# Altium footprint library Packaging.PcbLib: 1 footprints
Each footprint in its own frame and in the unit in brackets; x right, y up, seen from the top. Pads: shape width x height; smd on the part's side, far side on the other; paste and mask are expansions set on the pad; w line width, h text height; cw(c..) or ccw(c..) is an arc to the next point about the centre after c.
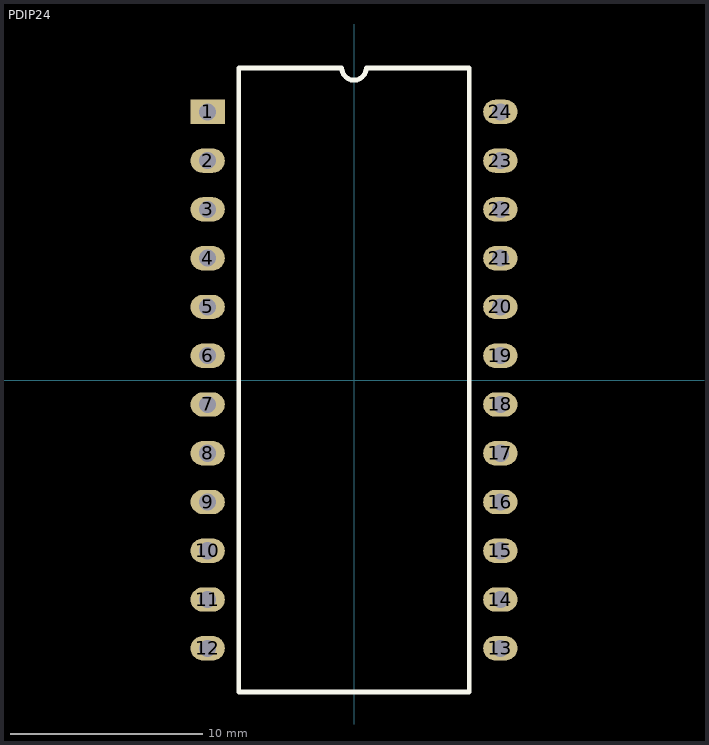
[diagram p0: the footprint, top view; thin cyan lines are the x and y axes]

## PDIP24 [mil]
pads (24):
  rect 70x50 hole 35: 1(-300,550)
  oval 70x50 hole 35: 2(-300,450) 3(-300,350) 4(-300,250) 5(-300,150) 6(-300,50) 7(-300,-50) 8(-300,-150) 9(-300,-250) 10(-300,-350) 11(-300,-450) 12(-300,-550) 13(300,-550) 14(300,-450) 15(300,-350) 16(300,-250) 17(300,-150) 18(300,-50) 19(300,50) 20(300,150) 21(300,250) 22(300,350) 23(300,450) 24(300,550)
Top Overlay:
  lines w10: -236.22,-640 236.22,-640 236.22,640 25,640 cw(c0,640) -25,640 -236.22,640 -236.22,-640
3D body: height 100, standoff 15, extent -275,-640 275,640.09
3D body: height 50, standoff 40, extent -295,525 -275,575
3D body: height 50, standoff 0, extent -305,525 -295,575
3D body: height 0, standoff -125, extent -305,542.5 -295,557.5
3D body: height 50, standoff 40, extent -295,425 -275,475
3D body: height 50, standoff 0, extent -305,425 -295,475
3D body: height 0, standoff -125, extent -305,442.5 -295,457.5
3D body: height 50, standoff 40, extent -295,325 -275,375
3D body: height 50, standoff 0, extent -305,325 -295,375
3D body: height 0, standoff -125, extent -305,342.5 -295,357.5
3D body: height 50, standoff 40, extent -295,225 -275,275
3D body: height 50, standoff 0, extent -305,225 -295,275
3D body: height 0, standoff -125, extent -305,242.5 -295,257.5
3D body: height 50, standoff 40, extent -295,125 -275,175
3D body: height 50, standoff 0, extent -305,125 -295,175
3D body: height 0, standoff -125, extent -305,142.5 -295,157.5
3D body: height 50, standoff 40, extent -295,25 -275,75
3D body: height 50, standoff 0, extent -305,25 -295,75
3D body: height 0, standoff -125, extent -305,42.5 -295,57.5
3D body: height 50, standoff 40, extent -295,-75 -275,-25
3D body: height 50, standoff 0, extent -305,-75 -295,-25
3D body: height 0, standoff -125, extent -305,-57.5 -295,-42.5
3D body: height 50, standoff 40, extent -295,-175 -275,-125
3D body: height 50, standoff 0, extent -305,-175 -295,-125
3D body: height 0, standoff -125, extent -305,-157.5 -295,-142.5
3D body: height 50, standoff 40, extent -295,-275 -275,-225
3D body: height 50, standoff 0, extent -305,-275 -295,-225
3D body: height 0, standoff -125, extent -305,-257.5 -295,-242.5
3D body: height 50, standoff 40, extent -295,-375 -275,-325
3D body: height 50, standoff 0, extent -305,-375 -295,-325
3D body: height 0, standoff -125, extent -305,-357.5 -295,-342.5
3D body: height 50, standoff 40, extent -295,-475 -275,-425
3D body: height 50, standoff 0, extent -305,-475 -295,-425
3D body: height 0, standoff -125, extent -305,-457.5 -295,-442.5
3D body: height 50, standoff 40, extent -295,-575 -275,-525
3D body: height 50, standoff 0, extent -305,-575 -295,-525
3D body: height 0, standoff -125, extent -305,-557.5 -295,-542.5
3D body: height 50, standoff 40, extent 275,-575 295,-525
3D body: height 50, standoff 0, extent 295,-575 305,-525
3D body: height 0, standoff -125, extent 295,-557.5 305,-542.5
3D body: height 50, standoff 40, extent 275,-475 295,-425
3D body: height 50, standoff 0, extent 295,-475 305,-425
3D body: height 0, standoff -125, extent 295,-457.5 305,-442.5
3D body: height 50, standoff 40, extent 275,-375 295,-325
3D body: height 50, standoff 0, extent 295,-375 305,-325
3D body: height 0, standoff -125, extent 295,-357.5 305,-342.5
3D body: height 50, standoff 40, extent 275,-275 295,-225
3D body: height 50, standoff 0, extent 295,-275 305,-225
3D body: height 0, standoff -125, extent 295,-257.5 305,-242.5
3D body: height 50, standoff 40, extent 275,-175 295,-125
3D body: height 50, standoff 0, extent 295,-175 305,-125
3D body: height 0, standoff -125, extent 295,-157.5 305,-142.5
3D body: height 50, standoff 40, extent 275,-75 295,-25
3D body: height 50, standoff 0, extent 295,-75 305,-25
3D body: height 0, standoff -125, extent 295,-57.5 305,-42.5
3D body: height 50, standoff 40, extent 275,25 295,75
3D body: height 50, standoff 0, extent 295,25 305,75
3D body: height 0, standoff -125, extent 295,42.5 305,57.5
3D body: height 50, standoff 40, extent 275,125 295,175
3D body: height 50, standoff 0, extent 295,125 305,175
3D body: height 0, standoff -125, extent 295,142.5 305,157.5
3D body: height 50, standoff 40, extent 275,225 295,275
3D body: height 50, standoff 0, extent 295,225 305,275
3D body: height 0, standoff -125, extent 295,242.5 305,257.5
3D body: height 50, standoff 40, extent 275,325 295,375
3D body: height 50, standoff 0, extent 295,325 305,375
3D body: height 0, standoff -125, extent 295,342.5 305,357.5
3D body: height 50, standoff 40, extent 275,425 295,475
3D body: height 50, standoff 0, extent 295,425 305,475
3D body: height 0, standoff -125, extent 295,442.5 305,457.5
3D body: height 50, standoff 40, extent 275,525 295,575
3D body: height 50, standoff 0, extent 295,525 305,575
3D body: height 0, standoff -125, extent 295,542.5 305,557.5